# Altium schematic symbol library GZ1608D601TF.SchLib: 1 symbol
Pins are listed as number, name and electrical type; pins without a type are passive.

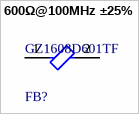
[diagram p0: symbol 600Ω@100MHz ±25%]

## 600Ω@100MHz ±25%
designator FB?, comment GZ1608D601TF
直流电阻(RDC) 450mΩ / 额定电流 200mA
footprint FP-BLM18-0_15-t0_8-IPC_B
footprint FP-BLM18-0_15-t0_8-IPC_C
footprint FP-BLM18-0_15-t0_8-IPC_A
footprint FP-BLM18-0_15-t0_8-MFG
pins: 1, 2